# Altium footprint library INF-PG-DSO-28-22M.PcbLib: 1 footprints
Each footprint in its own frame and in the unit in brackets; x right, y up, seen from the top. Pads: shape width x height; smd on the part's side, far side on the other; paste and mask are expansions set on the pad; w line width, h text height; cw(c..) or ccw(c..) is an arc to the next point about the centre after c.
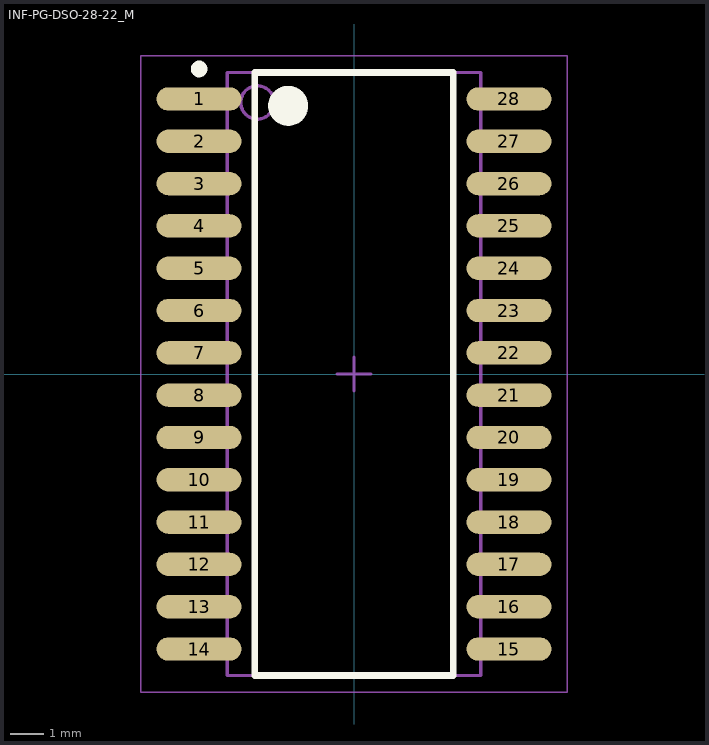
[diagram p0: the footprint, top view; thin cyan lines are the x and y axes]

## INF-PG-DSO-28-22_M [mm] "SOP, 28-Leads, Body 17.9x7.5mm, Pitch 1.27mm, IPC Low Density"
height 2.65
pads (28):
  oval 2.55x0.7 smd: 1(-4.65,8.255) 2(-4.65,6.985) 3(-4.65,5.715) 4(-4.65,4.445) 5(-4.65,3.175) 6(-4.65,1.905) 7(-4.65,0.635) 8(-4.65,-0.635) 9(-4.65,-1.905) 10(-4.65,-3.175) 11(-4.65,-4.445) 12(-4.65,-5.715) 13(-4.65,-6.985) 14(-4.65,-8.255) 15(4.65,-8.255) 16(4.65,-6.985) 17(4.65,-5.715) 18(4.65,-4.445) 19(4.65,-3.175) 20(4.65,-1.905) 21(4.65,-0.635) 22(4.65,0.635) 23(4.65,1.905) 24(4.65,3.175) 25(4.65,4.445) 26(4.65,5.715) 27(4.65,6.985) 28(4.65,8.255)
Top Overlay:
  circle w0.25: c-4.65,9.155 r0.125
  circle w0.6: c-1.975,8.05 r0.3
  lines w0.2: -2.975,-9.05 -2.975,9.05 2.975,9.05 2.975,-9.05 -2.975,-9.05
Mechanical 13:
  circle w0.1: c-2.9,8.15 r0.5
  lines w0.1: -3.8,-9.05 -3.8,9.05 3.8,9.05 3.8,-9.05 -3.8,-9.05
Mechanical 15:
  lines w0.05: -6.4,-9.55 -6.4,9.55 6.4,9.55 6.4,-9.55 -6.4,-9.55
  lines w0.1: -0.5,0 0.5,0 ; 0,-0.5 0,0.5
3D body: height 2.65, standoff 0.1, extent -3.8,-9.05 3.8,9.05